# Altium schematic symbol library LT1932ES6#PBF.SchLib: 1 symbol
Pins are listed as number, name and electrical type; pins without a type are passive.

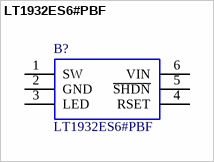
[diagram p0: symbol LT1932ES6#PBF]

## LT1932ES6#PBF
designator B?
LINEAR TECHNOLOGY - LT1932ES6#PBF - IC, DC/DC CONVERT/LED DR, 6SOT2; Geometry.Height: 1.45mm; Manufacturer_Name: Linear Technology; Manufacturer_Part_Number: LT1932ES6#PBF; RS Part Number: *; RS Price/Stock: *; Mouser Part Number: 584-LT1932ES6#PBF; Mouser Price/Stock: https://www.mouser.com/Search/Refine.aspx?Keyword=584-LT1932ES6%23PBF; Datasheet Link: http://www.linear.com/docs/2139
footprint SOT95P280X145-6N
pins: 1 SW, 2 GND, 3 LED, 4 RSET, 5 ~{SHDN}, 6 VIN